# EAGLE library part IVC102U (library IVC102U)
Check prices <https://pricing.snapeda.com/parts/IVC102U/Texas/view-part?ref=eda>
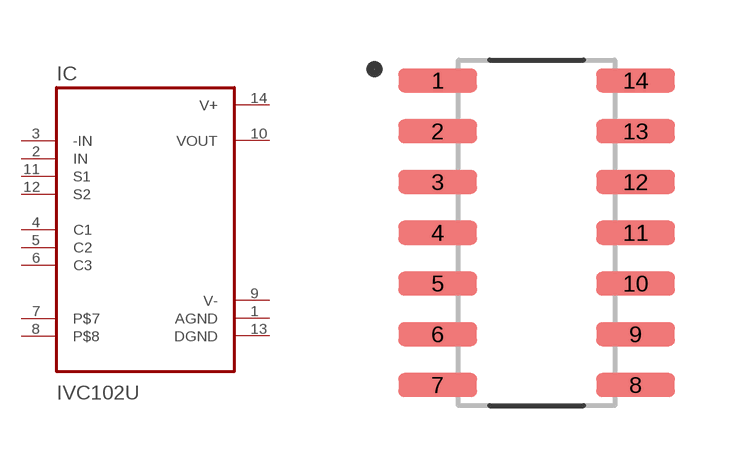
[diagram p0: symbol with the pads of SOIC127P600X175-14N; footprint SOIC127P600X175-14N]

Designator prefix IC

## IVC102U (AVAILABILITY: Good; DESCRIPTION: Precision Switched Integrator Transimpedance Amplifier 14-SOIC -40 to 125; MF: Texas; MP: IVC102U; PACKAGE: SO-14 Burr Brown; PRICE: None; PURCHASE-URL: https://pricing.snapeda.com/search/part/IVC102U/?ref=eda)  [SOIC127P600X175-14N]
1  AGND  pwr
2  IN  in
3  -IN  in
4  C1
5  C2
6  C3
7  P$7
8  P$8
9  V-  pwr
10  VOUT  out
11  S1  in
12  S2  in
13  DGND  pwr
14  V+  pwr

## Footprint SOIC127P600X175-14N (pad centres in mm)
smd 1.97 x 0.6: 1 -2.475,3.81; 2 -2.475,2.54; 3 -2.475,1.27; 4 -2.475,0; 5 -2.475,-1.27; 6 -2.475,-2.54; 7 -2.475,-3.81; 8 2.475,-3.81; 9 2.475,-2.54; 10 2.475,-1.27; 11 2.475,0; 12 2.475,1.27; 13 2.475,2.54; 14 2.475,3.81